# EAGLE library part IL485 (library Traficon)
RS485 transceiver
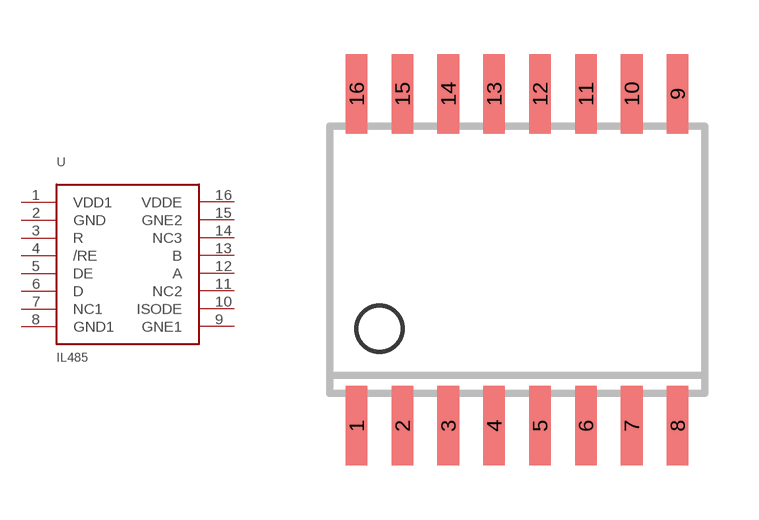
[diagram p3: symbol with the pads of SO16W; footprint SO16W]

Designator prefix -

## IL485  [SO16W]
1  VDD1  pas
2  GND  pas
3  R  out
4  /RE  in
5  DE  in
6  D  in
7  NC1  pas
8  GND1  pas
9  GNE1  pas
10  ISODE  pas
11  NC2  pas
12  A  out
13  B  out
14  NC3  pas
15  GNE2  pas
16  VDDE  pas

## Footprint SO16W (pad centres in mm)
SMALL OUTLINE INTEGRATED CIRCUIT wide body 7.5 mm/JEDEC MS-013AA
smd 0.6 x 2.2: 1 -4.445,-4.6; 2 -3.175,-4.6; 3 -1.905,-4.6; 4 -0.635,-4.6; 5 0.635,-4.6; 6 1.905,-4.6; 7 3.175,-4.6; 8 4.445,-4.6; 9 4.445,4.6; 10 3.175,4.6; 11 1.905,4.6; 12 0.635,4.6; 13 -0.635,4.6; 14 -1.905,4.6; 15 -3.175,4.6; 16 -4.445,4.6